# EAGLE library part LM386-DIP (library skeezix)
LM386 audio amp DIP8 package
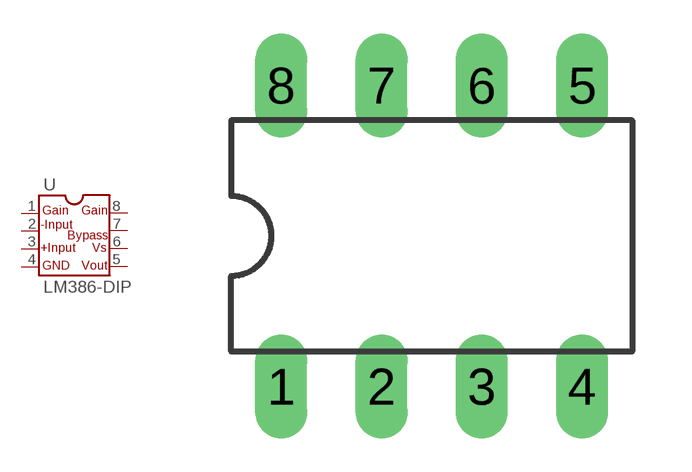
[diagram p25: symbol with the pads of LM386-DIP8; footprint LM386-DIP8]

Designator prefix -

## LM386-DIP  [LM386-DIP8]
1  1  pas
2  2  pas
3  3  pas
4  4  pas
5  5  pas
6  6  pas
7  7  pas
8  8  pas

## Footprint LM386-DIP8 (pad centres in mm)
LM386 audio amp DIP8
drill 0.813 long: 1 0,-1.27; 2 2.54,-1.27; 3 5.08,-1.27; 4 7.62,-1.27; 5 7.62,6.35; 6 5.08,6.35; 7 2.54,6.35; 8 0,6.35